# EAGLE library part TDA7391 (library mouser)
ref Mouser: 511-TDA7391
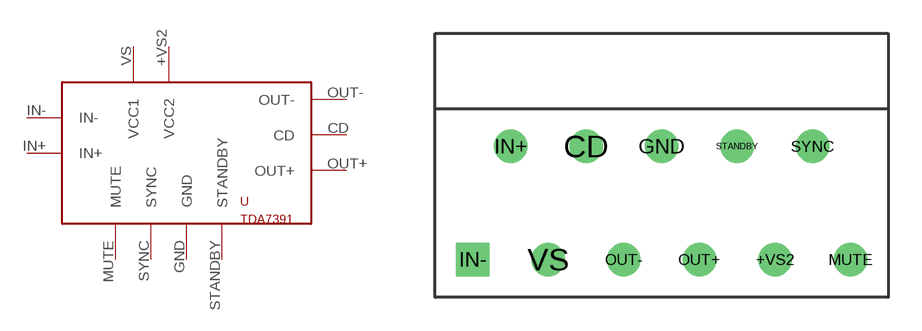
[diagram p0: symbol with the pads of TDA7391_DIM; footprint TDA7391_DIM]

Designator prefix -

## TDA7391  [TDA7391_DIM]
+VS2  VCC2
CD  CD
GND  GND
IN+  IN+
IN-  IN-
MUTE  MUTE
OUT+  OUT+
OUT-  OUT-
STANDBY  STANDBY
SYNC  SYNC
VS  VCC1

## Footprint TDA7391_DIM (pad centres in mm)
drill 1: +VS2 8.5,-1.7; CD 0,3.4; GND 3.4,3.4; IN+ -3.4,3.4; MUTE 11.9,-1.7; OUT+ 5.1,-1.7; OUT- 1.7,-1.7; STANDBY 6.8,3.4; SYNC 10.2,3.4; VS -1.7,-1.7
drill 1 square: IN- -5.1,-1.7